# Altium footprint library Batt Holder 24mm.PcbLib: 1 footprints
Each footprint in its own frame and in the unit in brackets; x right, y up, seen from the top. Pads: shape width x height; smd on the part's side, far side on the other; paste and mask are expansions set on the pad; w line width, h text height; cw(c..) or ccw(c..) is an arc to the next point about the centre after c.
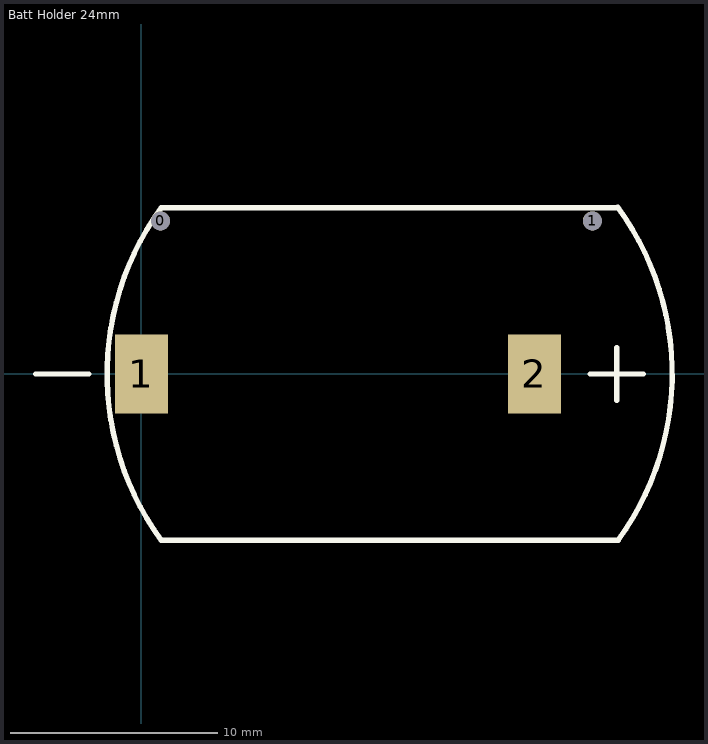
[diagram p0: the footprint, top view; thin cyan lines are the x and y axes]

## Batt Holder 24mm [mil]
height 367
pads (4):
  round 36 hole 36: 0(36,290) 1(854,290)
  rect 100x150 smd: 1(0,0) 2(744,0)
TopOverlay:
  lines w10: -200,0 -100,0 ; 37,-315 902.98,-315 ; 37,315 901.94,315 ; 37.37,-314.73 cw(c470,0) 37.37,314.73 ; 850,0 950,0 ; 900,-50 900,50 ; 901.94,315.68 cw(c470,0) 902.98,-314.26
Mechanical4:
  text "0.0311" at 2,0 h1
3D body: height 360.66, standoff 163.81, extent 0.72,-482.28 965.28,482.29